# Altium schematic symbol library ST3485EBDR.SchLib: 1 symbol
Pins are listed as number, name and electrical type; pins without a type are passive.

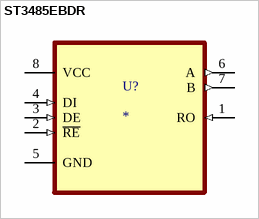
[diagram p0: symbol ST3485EBDR]

## ST3485EBDR
designator U?
1/1 Transceiver Half RS422, RS485 8-SOIC; MF: STMicroelectronics; MP: ST3485EBDR; SnapEDA_Link: https://www.snapeda.com/parts/ST3485EBDR/STMicroelectronics/view-part/?ref=snap; Package: SOIC-8 STMicroelectronics; Value: *; Check_prices: https://www.snapeda.com/parts/ST3485EBDR/STMicroelectronics/view-part/?ref=eda
footprint SOIC127P600X175-8N
pins: 1 RO (in), 2 ~{RE} (in), 3 DE (in), 4 DI (in), 5 GND, 6 A (out), 7 B (out), 8 VCC (power)